# Altium footprint library sod523.PcbLib: 1 footprints
Each footprint in its own frame and in the unit in brackets; x right, y up, seen from the top. Pads: shape width x height; smd on the part's side, far side on the other; paste and mask are expansions set on the pad; w line width, h text height; cw(c..) or ccw(c..) is an arc to the next point about the centre after c.
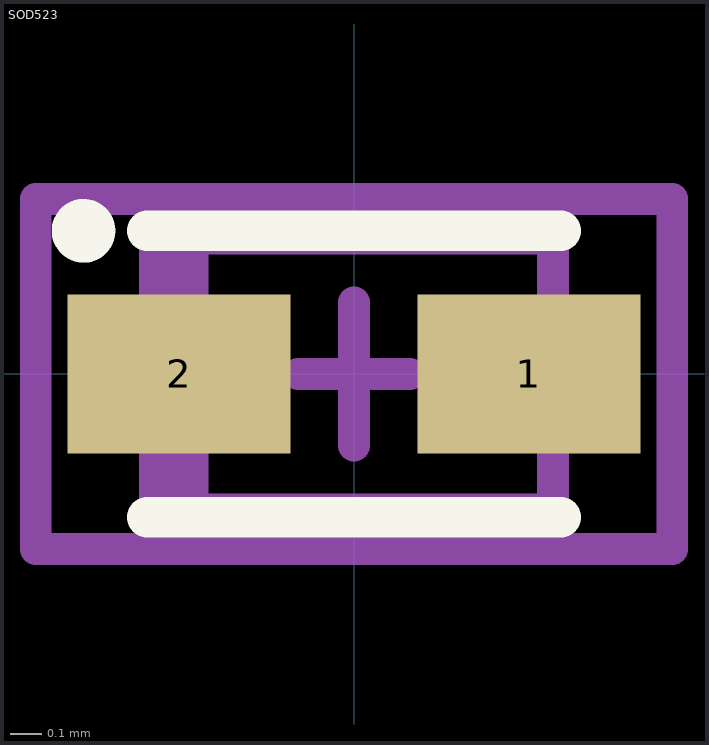
[diagram p0: the footprint, top view; thin cyan lines are the x and y axes]

## SOD523 [mm] "Molded Diode, 2-Leads, Body 1.2x0.8mm, IPC High Density"
height 1.8
pads (2):
  rect 0.7x0.5 smd: 1(0.55,0) 2(-0.55,0)
Top Overlay:
  circle w0.1: c-0.85,0.45 r0.05
  lines w0.127: -0.65,-0.45 0.65,-0.45 ; -0.65,0.45 0.65,0.45
Top 3D Body:
  rectangle: -0.625,-0.425 -0.457,0.425
  lines w0.1: -0.625,-0.425 -0.625,0.425 0.625,0.425 0.625,-0.425 -0.625,-0.425
Top Courtyard:
  lines w0.1: -0.175,0 0.175,0 ; 0,-0.225 0,0.225 ; -1,-0.55 -1,0.55 1,0.55 1,-0.55 -1,-0.55
3D body "User Library-SOD523-1.step": height 0.7, standoff 0, extent -0.8,-0.399 0.8,0.399